# Altium schematic symbol library Beveiliging.SchLib: 1 symbol
Pins are listed as number, name and electrical type; pins without a type are passive.

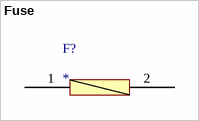
[diagram p0: symbol Fuse]

## Fuse
designator F?
footprint Fuse
pins: 1, 2